# EAGLE library part TLP627-2 (library sibosop)
2 unit Hi voltage opto-isolator
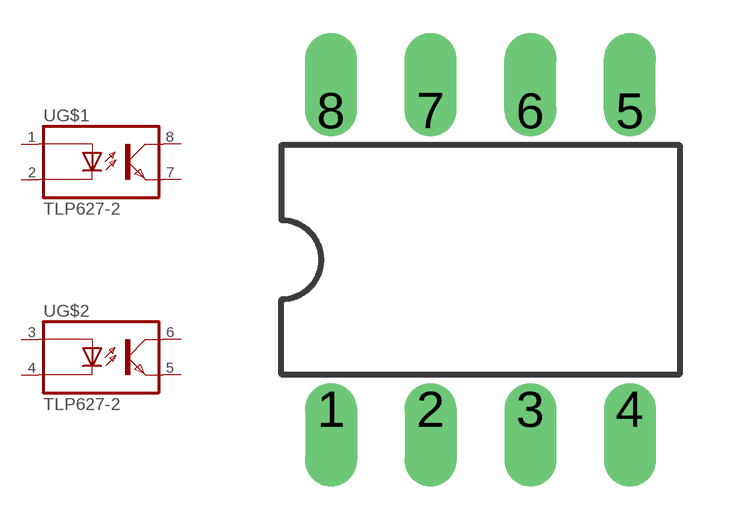
[diagram p11: symbol with the pads of DIL8; footprint DIL8]

Designator prefix U; gates G$1=TLP627 G$2=TLP627

## TLP627-2  [DIL8]
1  G$1:AN  pas
2  G$1:CA  pas
3  G$2:AN  pas
4  G$2:CA  pas
5  G$2:EM  pas
6  G$2:CO  pas
7  G$1:EM  pas
8  G$1:CO  pas

## Footprint DIL8 (pad centres in mm)
drill 0.813 offset: 1 -3.81,-3.81; 2 -1.27,-3.81; 3 1.27,-3.81; 4 3.81,-3.81; 5 3.81,3.81; 6 1.27,3.81; 7 -1.27,3.81; 8 -3.81,3.81